# Altium schematic symbol library Optical GOST.SchLib: 11 symbols
Pins are listed as number, name and electrical type; pins without a type are passive.

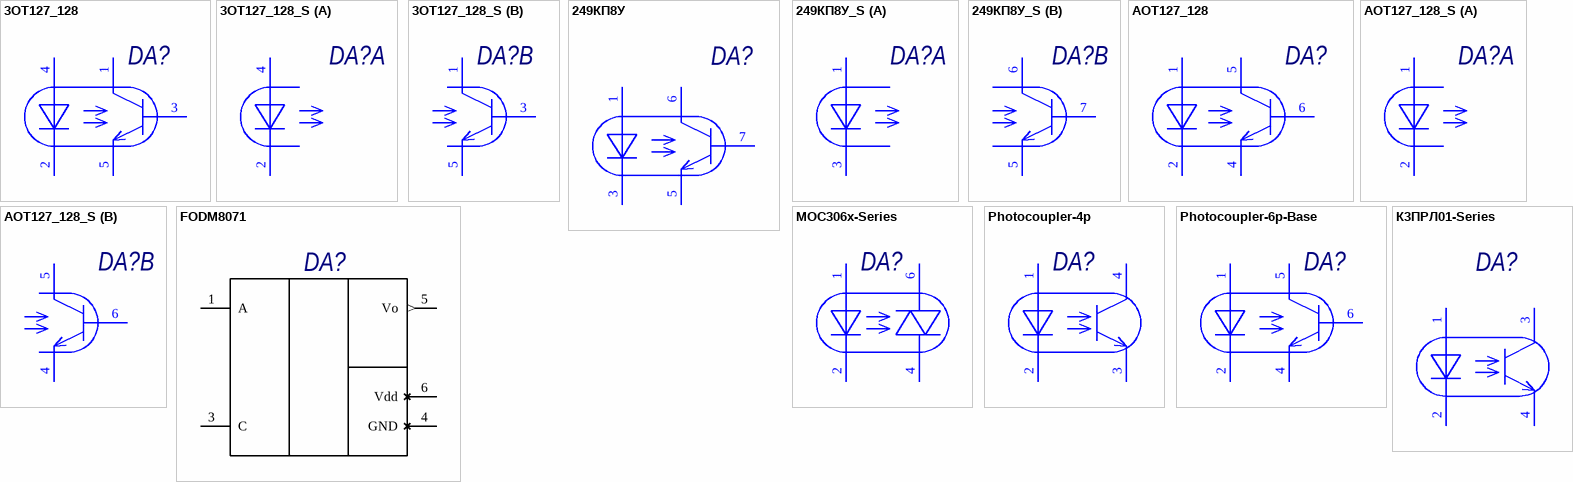
[diagram p0: symbols 3ОТ127_128 to К3ПРЛ01-Series]

## 3ОТ127_128
designator DA?
Published: 07.03.2013; Publisher: Andrew Danich; Type: Микросхема
pins: 1 К "Коллектор транзистора", 2 CК "Катод излучающего диода", 3 Б "База транзистора (n-p-n)", 4 CА "Анод излучающего диода", 5 Э "Эмиттер транзистора (n-p-n)"

## 3ОТ127_128_S
designator DA?
Published: 07.03.2013; Publisher: Andrew Danich; Type: Микросхема
part A pins: 2 CК "Катод излучающего диода", 4 CА "Анод излучающего диода"
part B pins: 1 К "Коллектор транзистора", 3 Б "База транзистора (n-p-n)", 5 Э "Эмиттер транзистора (n-p-n)"

## 249КП8У
designator DA?
Type: Микросхема; Published: 18.07.2013; Publisher: Viktor Klishin
pins: 1 А "Анод излучающего диода", 3 К "Катод излучающего диода", 5 Э "Эмиттер транзистора (n-p-n)", 6 К "Коллектор транзистора (n-p-n)", 7 Б "База транзистора (n-p-n)"

## 249КП8У_S
designator DA?
Type: Микросхема; Published: 18.07.2013; Publisher: Viktor Klishin
part A pins: 1 А "Анод излучающего диода", 3 К "Катод излучающего диода"
part B pins: 5 Э "Эмиттер транзистора (n-p-n)", 6 К "Коллектор транзистора (n-p-n)", 7 Б "База транзистора (n-p-n)"

## AОТ127_128
designator DA?
Published: 07.03.2013; Publisher: Andrew Danich; Type: Микросхема
pins: 1 CА "Анод излучающего диода", 2 CК "Катод излучающего диода", 4 Э "Эмиттер транзистора (n-p-n)", 5 К "Коллектор транзистора", 6 Б "База транзистора (n-p-n)"

## AОТ127_128_S
designator DA?
Published: 07.03.2013; Publisher: Andrew Danich; Type: Микросхема
part A pins: 1 CА "Анод излучающего диода", 2 CК "Катод излучающего диода"
part B pins: 4 Э "Эмиттер транзистора (n-p-n)", 5 К "Коллектор транзистора", 6 Б "База транзистора (n-p-n)"

## FODM8071
designator DA?
3.3V/5V Logic Gate Output Optocoupler with High Noise Immunity; Published: 21.04.2017; Type: Микросхема
pins: 1 A "Anode", 3 C "Cathode", 4 GND (power), 5 Vo (out), 6 Vdd (power)

## MOC306x-Series
designator DA?
Published: 09.01.2017; Publisher: Andrew Danich; Type: Микросхема
pins: 1 CА "Анод излучающего диода", 2 CК "Катод излучающего диода", 4, 6

## Photocoupler-4p
designator DA?
Published: 09.01.2017; Publisher: Andrew Danich; Type: Микросхема
pins: 1 CА "Анод излучающего диода", 2 CК "Катод излучающего диода", 3 Э "Эмиттер транзистора (n-p-n)", 4 К "Коллектор транзистора"

## Photocoupler-6p-Base
designator DA?
Published: 09.01.2017; Publisher: Andrew Danich; Type: Микросхема
pins: 1 CА "Анод излучающего диода", 2 CК "Катод излучающего диода", 4 Э "Эмиттер транзистора (n-p-n)", 5 К "Коллектор транзистора", 6 Б "База транзистора (n-p-n)"

## К3ПРЛ01-Series
designator DA?
Type: Микросхема; Published: 02.02.2015; Publisher: Andrew Danich
pins: 1 А "Анод излучающего диода", 2 К "Катод излучающего диода", 3 К "Коллектор транзистора (n-p-n)", 4 Э "Эмиттер транзистора (n-p-n)"